# Altium schematic symbol library TPS3836.SchLib: 1 symbol
Pins are listed as number, name and electrical type; pins without a type are passive.

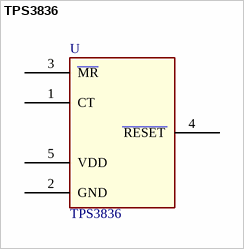
[diagram p0: symbol TPS3836]

## TPS3836
designator U  value TPS3836  (hidden comment: *)
Manufacturer Code: TPS3836K33DBVT; Manufacturer: Texas Instruments; Farnell Code: 8457301; Unit Price: 1,78 €
footprint SOT23-5
pins: 1 CT, 2 GND, 3 MR, 4 RESET, 5 VDD